# EAGLE library part MRF24WB0MA (library lizardworx)
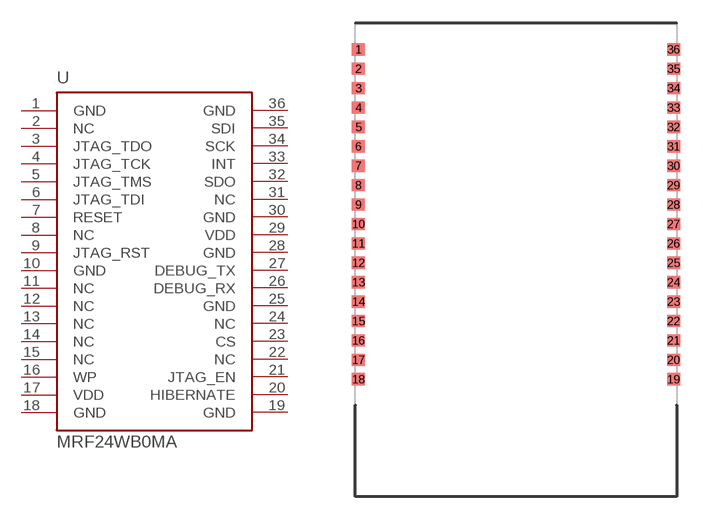
[diagram p0: symbol with the pads of SMD_MRF; footprint SMD_MRF]

Designator prefix -

## MRF24WB0MA  [SMD_MRF]
1  GND
2  NC
3  JTAG_TDO
4  JTAG_TCK
5  JTAG_TMS
6  JTAG_TDI
7  RESET
8  NC
9  JTAG_RST
10  GND
11  NC
12  NC
13  NC
14  NC
15  NC
16  WP
17  VDD
18  GND
19  GND
20  HIBERNATE
21  JTAG_EN
22  NC
23  CS
24  NC
25  GND
26  DEBUG_RX
27  DEBUG_TX
28  GND
29  VDD
30  GND
31  NC
32  SDO
33  INT
34  SCK
35  SDI
36  GND

## Footprint SMD_MRF (pad centres in mm)
Surface mount footprint for the MRF24WB0Mx module.
smd 0.85 x 0.8: 1 0.2,-1.73; 2 0.2,-3; 3 0.2,-4.27; 4 0.2,-5.54; 5 0.2,-6.81; 6 0.2,-8.08; 7 0.2,-9.35; 8 0.2,-10.62; 9 0.2,-11.89; 10 0.2,-13.16; 11 0.2,-14.43; 12 0.2,-15.7; 13 0.2,-16.97; 14 0.2,-18.24; 15 0.2,-19.51; 16 0.2,-20.78; 17 0.2,-22.05; 18 0.2,-23.32; 19 20.8,-23.32; 20 20.8,-22.05; 21 20.8,-20.78; 22 20.8,-19.51; 23 20.8,-18.24; 24 20.8,-16.97; 25 20.8,-15.7; 26 20.8,-14.43; 27 20.8,-13.16; 28 20.8,-11.89; 29 20.8,-10.62; 30 20.8,-9.35; 31 20.8,-8.08; 32 20.8,-6.81; 33 20.8,-5.54; 34 20.8,-4.27; 35 20.8,-3; 36 20.8,-1.73